# Altium schematic symbol library IMX415.SCHLIB: 11 symbols
Pins are listed as number, name and electrical type; pins without a type are passive.

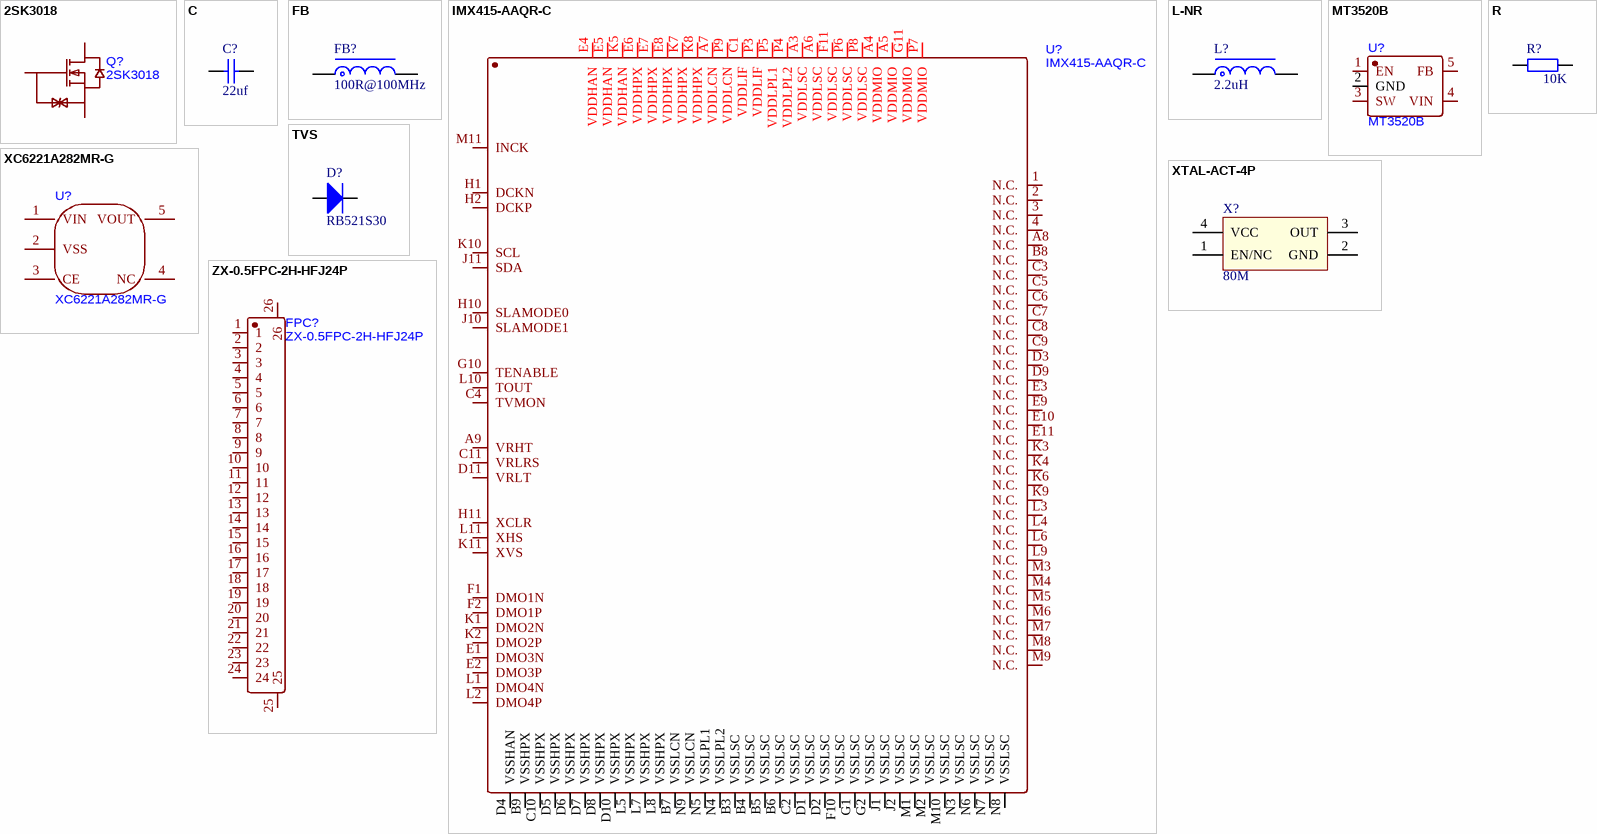
[diagram p0: symbols 2SK3018 to ZX-0.5FPC-2H-HFJ24P]

## 2SK3018
designator Q?
footprint SOT-23-3_L2.9-W1.3-P1.90-LS2.4-BR
pins: 1 G, 2 S, 3 D

## C
designator C?, comment 22uf
贴片电容/MLCC电容
footprint C0402_L (贴片MLCC电容)
footprint C0603_L (贴片MLCC电容)
pins: 1, 2

## FB
designator FB?, comment 100R@100MHz
贴片磁珠
footprint FB0603 (0603贴片磁珠)
pins: 1, 2

## IMX415-AAQR-C
designator U?
footprint BGA-110_L12.0-W9.3-BL_IMX415-AAQR-C
pins: 1 N.C., 2 N.C., 3 N.C., 4 N.C., A3 VDDLSC, A4 VDDMIO, A5 VDDMIO, A6 VDDLSC, A7 VDDLCN, A8 N.C., A9 VRHT, B3 VSSLSC, B4 VSSLSC, B5 VSSLSC, B6 VSSLSC, B7 VSSLCN, B8 N.C., B9 VSSHPX, C1 VDDLIF, C2 VSSLSC, C3 N.C., C4 TVMON, C5 N.C., C6 N.C., C7 N.C., C8 N.C., C9 N.C., C10 VSSHPX, C11 VRLRS, D1 VSSLSC, D2 VSSLSC, D3 N.C., D4 VSSHAN, D5 VSSHPX, D6 VSSHPX, D7 VSSHPX, D8 VSSHPX, D9 N.C., D10 VSSHPX, D11 VRLT, E1 DMO3N, E2 DMO3P, E3 N.C., E4 VDDHAN, E5 VDDHAN, E6 VDDHPX, E7 VDDHPX, E8 VDDHPX, E9 N.C., E10 N.C., E11 N.C., F1 DMO1N, F2 DMO1P, F10 VSSLSC, F11 VDDLSC, G1 VSSLSC, G2 VSSLSC, G10 TENABLE, G11 VDDMIO, H1 DCKN, H2 DCKP, H10 SLAMODE0, H11 XCLR, J1 VSSLSC, J2 VSSLSC, J10 SLAMODE1, J11 SDA, K1 DMO2N, K2 DMO2P, K3 N.C., K4 N.C., K5 VDDHAN, K6 N.C., K7 VDDHPX, K8 VDDHPX, K9 N.C., K10 SCL, K11 XVS, L1 DMO4N, L2 DMO4P, L3 N.C., L4 N.C., L5 VSSHPX, L6 N.C., L7 VSSHPX, L8 VSSHPX, L9 N.C., L10 TOUT, L11 XHS, M1 VSSLSC, M2 VSSLSC, M3 N.C., M4 N.C., M5 N.C., M6 N.C., M7 N.C., M8 N.C., M9 N.C., M10 VSSLSC, M11 INCK, N3 VSSLSC, N4 VSSLPL2, N5 VSSLPL1, N6 VSSLSC, N7 VSSLSC, N8 VSSLSC, N9 VSSLCN, P3 VDDLIF, P4 VDDLPL2, P5 VDDLPL1, P6 VDDLSC, P7 VDDMIO, P8 VDDLSC, P9 VDDLCN

## L-NR
designator L?, comment 2.2uH
太诱-NR磁胶电感
footprint NR2520 (2.5mm*2.0mm*1.0mm(长*宽*高）)
pins: 1, 2

## MT3520B
designator U?
footprint SOT-23-5_L3.0-W1.7-P0.95-LS2.8-BR
pins: 1 EN, 2 GND, 3 SW, 4 VIN, 5 FB

## R
designator R?, comment 10K
贴片电阻
footprint R0402_L (1/16W贴片电阻)
pins: 1, 2

## TVS
designator D?, comment RB521S30
footprint SOD-323
pins: 1 A, 2 K

## XC6221A282MR-G
designator U?
footprint SOT-23-5_L3.0-W1.7-P0.95-LS2.8-BR
pins: 1 VIN, 2 VSS, 3 CE, 4 NC, 5 VOUT

## XTAL-ACT-4P
designator X?, comment 80M
4脚有源晶振(振荡器)
footprint OSC-3225-4P (3.2*2.5*0.7mm(长宽高))
pins: 1 EN/NC, 2 GND, 3 OUT, 4 VCC

## ZX-0.5FPC-2H-HFJ24P
designator FPC?
footprint FPC-SMD_24P-P0.50_ZX-0.5FPC-2H-HFJ24P
pins: 1, 2, 3, 4, 5, 6, 7, 8, 9, 10, 11, 12, 13, 14, 15, 16, 17, 18, 19, 20, 21, 22, 23, 24, 25, 26